# Altium schematic symbol library LED_HOME.SchLib: 6 symbols
Pins are listed as number, name and electrical type; pins without a type are passive.

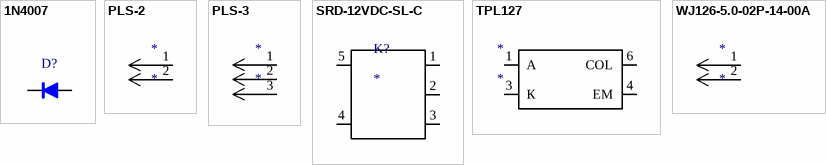
[diagram p0: symbols 1N4007 to WJ126-5.0-02P-14-00A]

## 1N4007
designator D?  (value not drawn)
Diode; Package: DO-41
footprint DO-41_BD2.4-P10.16-D0.8-RD (DO-41)
pins: 1, 2

## PLS-2
designator *
footprint PLS-3
pins: 1, 2

## PLS-3
designator *
footprint PLS-3
pins: 1, 2, 3

## SRD-12VDC-SL-C
designator K?
footprint REALY-TH_012-1ZW_BK (µҐµ¶Л«Н¶)
pins: 1, 2, 3, 4, 5

## TPL127
designator *
footprint SOP-4_L3.6-W4.4-P2.54-LS7.0-BL
pins: 1 А, 3 К, 4 EM, 6 COL

## WJ126-5.0-02P-14-00A
designator *
footprint WJ126-5.0
pins: 1, 2